# Altium schematic symbol library SJ-43514-SMT-TR.SchLib: 1 symbol
Pins are listed as number, name and electrical type; pins without a type are passive.

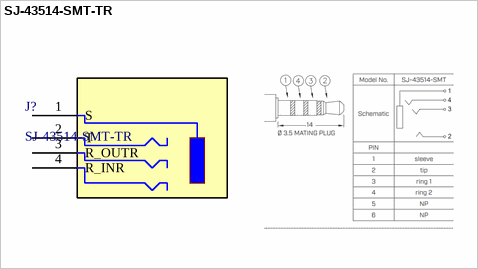
[diagram p0: symbol SJ-43514-SMT-TR]

## SJ-43514-SMT-TR
designator J?
Description; Manufacturer_Name: Same Sky; Copyright: Copyright (C) 2025 Ultra Librarian. All rights reserved.; Manufacturer_Part_Number: SJ-43514-SMT-TR; RefDes: RefDes; Type: Type
footprint SJ-43514-SMT_CUD
pins: 1 S, 2 T, 3 R_OUTR, 4 R_INR